# EAGLE library part OEM615 (library template_board)
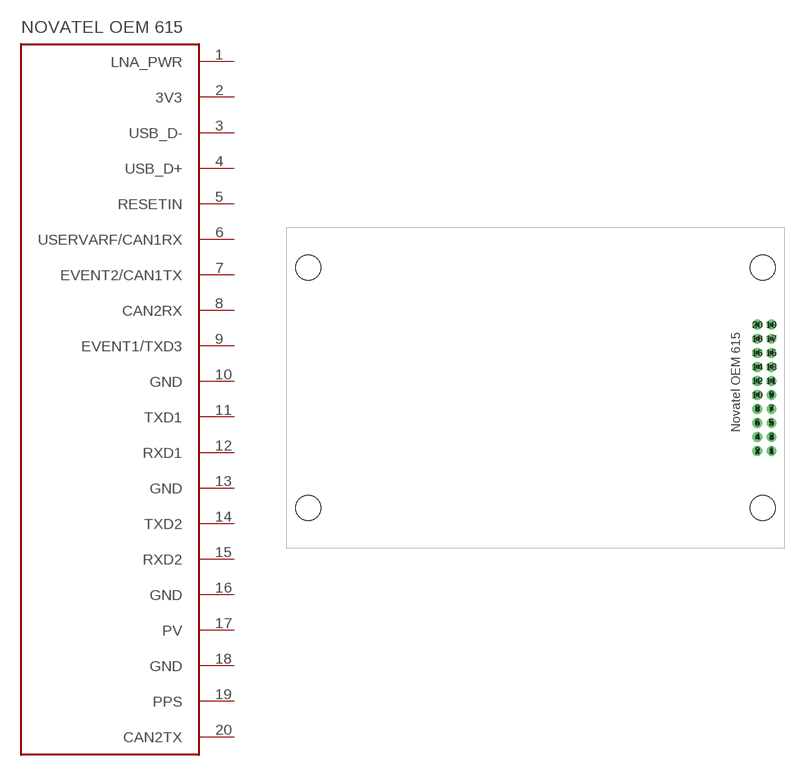
[diagram p15: symbol with the pads of OEM615; footprint OEM615]

Designator prefix -

## OEM615A  [OEM615]
1  LNA_PWR
2  3V3
3  USB_D-
4  USB_D+
5  RESETIN
6  USERVARF/CAN1RX
7  EVENT2/CAN1TX
8  CAN2RX
9  EVENT1/TXD3
10  GND
11  TXD1
12  RXD1
13  GND
14  TXD2
15  RXD2
16  GND
17  PV
18  GND
19  PPS
20  CAN2TX

## Footprint OEM615 (pad centres in mm)
drill 0.8 pad 1.422: 1 69.2,13.83; 2 67.2,13.83; 3 69.2,15.83; 4 67.2,15.83; 5 69.2,17.83; 6 67.2,17.83; 7 69.2,19.83; 8 67.2,19.83; 9 69.2,21.83; 10 67.2,21.83; 11 69.2,23.83; 12 67.2,23.83; 13 69.2,25.83; 14 67.2,25.83; 15 69.2,27.83; 16 67.2,27.83; 17 69.2,29.83; 18 67.2,29.83; 19 69.2,31.83; 20 67.2,31.83
hole 3.556 at 3.175,5.715
hole 3.556 at 3.175,40.005
hole 3.556 at 67.945,5.715
hole 3.556 at 67.945,40.005